# Altium integrated library SRD-05VDC-SL-C.IntLib: 1 symbol
Pins are listed as number, name and electrical type; pins without a type are passive.

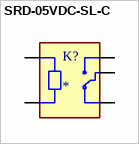
[diagram p0: symbol SRD-05VDC-SL-C]

## SRD-05VDC-SL-C
designator K?
5V Trigger Relay Module For Arduino And Raspberry Pi 5V Trigger Relay Module For Arduino And Raspberry Pi; MP: SRD-05VDC-SL-C; MF: Songle Relay; Price: None; Availability: Not in stock; Package: NON STANDARD-5 Songle Relay; SnapEDA_Link: https://www.snapeda.com/parts/SRD-05VDC-SL-C/Songle+Relay/view-part/?ref=snap; Check_prices: https://www.snapeda.com/parts/SRD-05VDC-SL-C/Songle+Relay/view-part/?ref=eda; Value: *
footprint RELAY_SRD-05VDC-SL-C
pins: A1, A2, COM, NC, NO